# Altium footprint library VQFN-HR_RNX.PcbLib: 1 footprints
Each footprint in its own frame and in the unit in brackets; x right, y up, seen from the top. Pads: shape width x height; smd on the part's side, far side on the other; paste and mask are expansions set on the pad; w line width, h text height; cw(c..) or ccw(c..) is an arc to the next point about the centre after c.
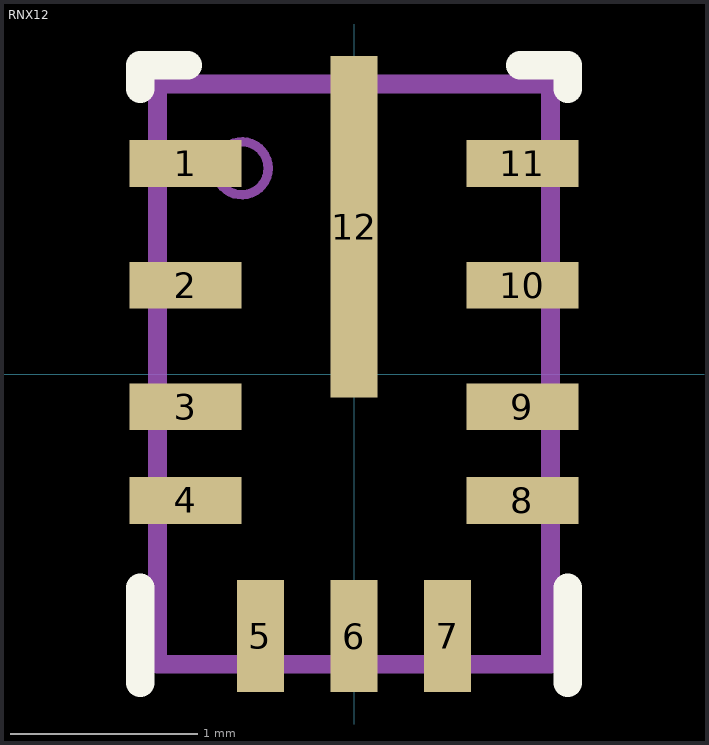
[diagram p0: the footprint, top view; thin cyan lines are the x and y axes]

## RNX12 [mm] "RNX0012B"
pads (12):
  rect 0.6x0.25 smd paste+0 mask+0: 1(-0.9,1.125) 2(-0.9,0.475) 3(-0.9,-0.175) 4(-0.9,-0.675) 8(0.9,-0.675) 9(0.9,-0.175) 10(0.9,0.475) 11(0.9,1.125)
  rect 0.25x0.6 smd paste+0 mask+0: 5(-0.5,-1.4) 6(0,-1.4) 7(0.5,-1.4)
  rect 0.25x1.825 smd paste-0.9 mask+0: 12(0,0.788)
Top Overlay:
  lines w0.152: -1.143,-1.651 -1.143,-1.143 ; -1.143,1.524 -1.143,1.651 -0.889,1.651 ; 0.889,1.651 1.143,1.651 1.143,1.524 ; 1.143,-1.651 1.143,-1.143
Top Paste:
  region: -0.124,0.929 -0.125,0.939 -0.125,1.651 -0.124,1.661 -0.121,1.67 -0.117,1.679 -0.11,1.686 -0.103,1.693 -0.094,1.697 -0.085,1.7 -0.075,1.701 0.075,1.701 0.085,1.7 0.094,1.697 0.103,1.693 0.11,1.686 0.117,1.679 0.121,1.67 0.124,1.661 0.125,1.651 0.125,0.939 0.124,0.929 0.121,0.92 0.117,0.911 0.11,0.904 0.103,0.897 0.094,0.893 0.085,0.89 0.075,0.889 -0.075,0.889 -0.085,0.89 -0.094,0.893 -0.103,0.897 -0.11,0.904 -0.117,0.911 -0.121,0.92
  region: -0.124,-0.086 -0.125,-0.076 -0.125,0.636 -0.124,0.646 -0.121,0.655 -0.117,0.664 -0.11,0.671 -0.103,0.678 -0.094,0.682 -0.085,0.685 -0.075,0.686 0.075,0.686 0.085,0.685 0.094,0.682 0.103,0.678 0.11,0.671 0.117,0.664 0.121,0.655 0.124,0.646 0.125,0.636 0.125,-0.076 0.124,-0.086 0.121,-0.095 0.117,-0.104 0.11,-0.111 0.103,-0.118 0.094,-0.122 0.085,-0.125 0.075,-0.126 -0.075,-0.126 -0.085,-0.125 -0.094,-0.122 -0.103,-0.118 -0.11,-0.111 -0.117,-0.104 -0.121,-0.095
Mechanical 13:
  circle w0.05: c-0.6,1.1 r0.141
  lines w0.1: -1.05,-1.55 -1.05,1.55 1.05,1.55 1.05,-1.55 -1.05,-1.55
3D body "VQFN-HR_RNX-12.stp": height 0.91, standoff -0.09, extent -1.016,-1.524 0.984,1.476